# Altium schematic symbol library Componets.SchLib: 14 symbols
Pins are listed as number, name and electrical type; pins without a type are passive.

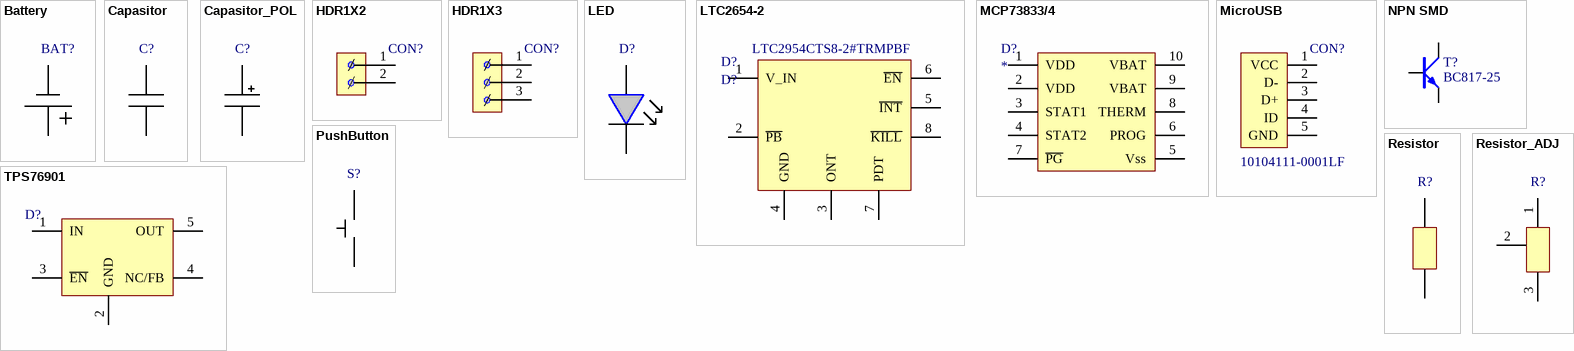
[diagram p0: symbols Battery to TPS76901]

## Battery
designator BAT?, comment BAT?  (value not drawn)
pins: 1, 2

## Capasitor
designator C?  (value not drawn)
footprint CAPC1608X05N (Chip Capacitor, 2-Leads, Body 1.60x0.80mm, IPC Medium Density)
footprint CAPC3216X06N (Chip Capacitor, 2-Leads, Body 3.20x1.60mm, IPC Medium Density)
pins: 1, 2

## Capasitor_POL
designator C?  (value not drawn)
footprint CAPMP3216X18N (Molded Capacitor, 2-Leads, Body 3.20x1.60mm, IPC Medium Density)
pins: 1, 2

## HDR1X2
designator CON?, comment CON?  (value not drawn)
footprint HDR1X2_no_body (No body HDR1X2)
pins: 1, 2

## HDR1X3
designator CON?, comment CON?  (value not drawn)
footprint HDR1X3_no_body - duplicate (No body HDR1X3)
pins: 1, 2, 3

## LED
designator D?  (value not drawn)
footprint DIOC1608X04N (Chip Diode, 2-Leads, Body 1.60x0.80mm, IPC Medium Density)
footprint CD1608-0603
pins: 1, 2

## LTC2654-2
designator D?, comment D?  TexasInstruments: LTC2954CTS8-2#TRMPBF
Farnell: 1663887
footprint TSOP65P280X100-8N (TSOP, 8-Leads, Body 2.90x1.63mm, Pitch 0.65mm, IPC Medium Density)
pins: 1 V_IN, 2 ~{PB}, 3 ONT, 4 GND, 5 ~{INT}, 6 ~{EN}, 7 PDT, 8 ~{KILL}

## MCP73833/4
designator D?
footprint TSSOP50P490-10AN
pins: 1 VDD, 2 VDD, 3 STAT1, 4 STAT2, 5 Vss, 6 PROG, 7 ~{PG}, 8 THERM, 9 VBAT, 10 VBAT

## MicroUSB
designator CON?, comment PartNumber: 10104111-0001LF  (hidden comment: CON?)
Manufacturer: AMPHENOL FCI; Farnell: 2293755
footprint MicroUSB (AMPHENOL FCI  10104111-0001LF, Micro USB type AB, USB 2.0)
pins: 1 VCC, 2 D-, 3 D+, 4 ID, 5 GND

## NPN SMD
designator T?, comment BC817-25
footprint SOT323-3AM (SOT323, 3-Leads, Body 2.0x1.3mm, Pitch 0.65mm, Lead Span 2.1mm, IPC Low Density)
pins: 1 B, 2 E, 3 C

## PushButton
designator S?, comment S?  (value not drawn)
Manufacturer: C and K components; ManufacturerPN: KSS243GLFG; Farnell: 2320069
footprint KSS241 (Subminiature SMT Side Actuated)
pins: 1, 2

## Resistor
designator R?, comment R?  (value not drawn)
footprint RESC2012X06N (Chip Resistor, 2-Leads, Body 2.00x1.25mm, IPC Medium Density)
footprint RESC1608X04N (Chip Resistor, 2-Leads, Body 1.60x0.80mm, IPC Medium Density)
pins: 1, 2

## Resistor_ADJ
designator R?, comment R?  (value not drawn)
Farnell: *; PartNumber: *; Manufacturer: *
footprint TSM4ZJ (5 mm Square Surface Mount Miniature Trimmers Multi-Turn  Cermet Sealed)
pins: 1, 2, 3

## TPS76901
designator D?, comment D?  (value not drawn)
PartNumber: TPS76901DBVR; Farnell: 2112624
footprint SOT23-5AN
pins: 1 IN, 2 GND, 3 ~{EN}, 4 NC/FB, 5 OUT